# Altium integrated library DRV8833.IntLib: 1 symbol
Pins are listed as number, name and electrical type; pins without a type are passive.

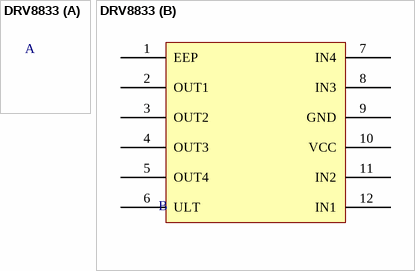
[diagram p0: symbol DRV8833]

## DRV8833
designator ?
footprint DRV8833
part B pins: 1 EEP, 2 OUT1, 3 OUT2, 4 OUT3, 5 OUT4, 6 ULT, 7 IN4, 8 IN3, 9 GND, 10 VCC, 11 IN2, 12 IN1